# EAGLE library part ED555/08 (library con-ost)
HEADER
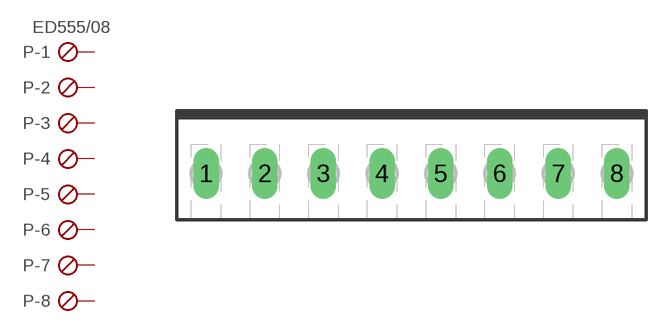
[diagram p20: symbol with the pads of ED555/08; footprint ED555/08]

Designator prefix P; gates -1=KLV-1 -2=KL-1 -3=KL-1 -4=KL-1 -5=KL-1 -6=KL-1 -7=KL-1 -8=KL-1

## ED555/08  [ED555/08]
1  -1:P  pas
2  -2:P  pas
3  -3:P  pas
4  -4:P  pas
5  -5:P  pas
6  -6:P  pas
7  -7:P  pas
8  -8:P  pas

## Footprint ED555/08 (pad centres in mm)
SCREW TERMINAL 3.5mm
drill 1.016 long: 1 -12.25,0; 2 -8.75,0; 3 -5.25,0; 4 -1.75,0; 5 1.75,0; 6 5.25,0; 7 8.75,0; 8 12.25,0